# Altium schematic symbol library TLV70235DBV.Schlib: 1 symbol
Pins are listed as number, name and electrical type; pins without a type are passive.

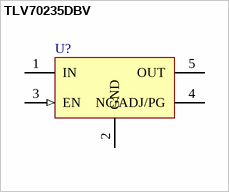
[diagram p0: symbol TLV70235DBV]

## TLV70235DBV
designator U?
pins: 1 IN (power), 2 GND (power), 3 EN (in), 4 NC/ADJ/PG, 5 OUT (power)